# Altium schematic symbol library Power.SchLib: 24 symbols
Pins are listed as number, name and electrical type; pins without a type are passive.

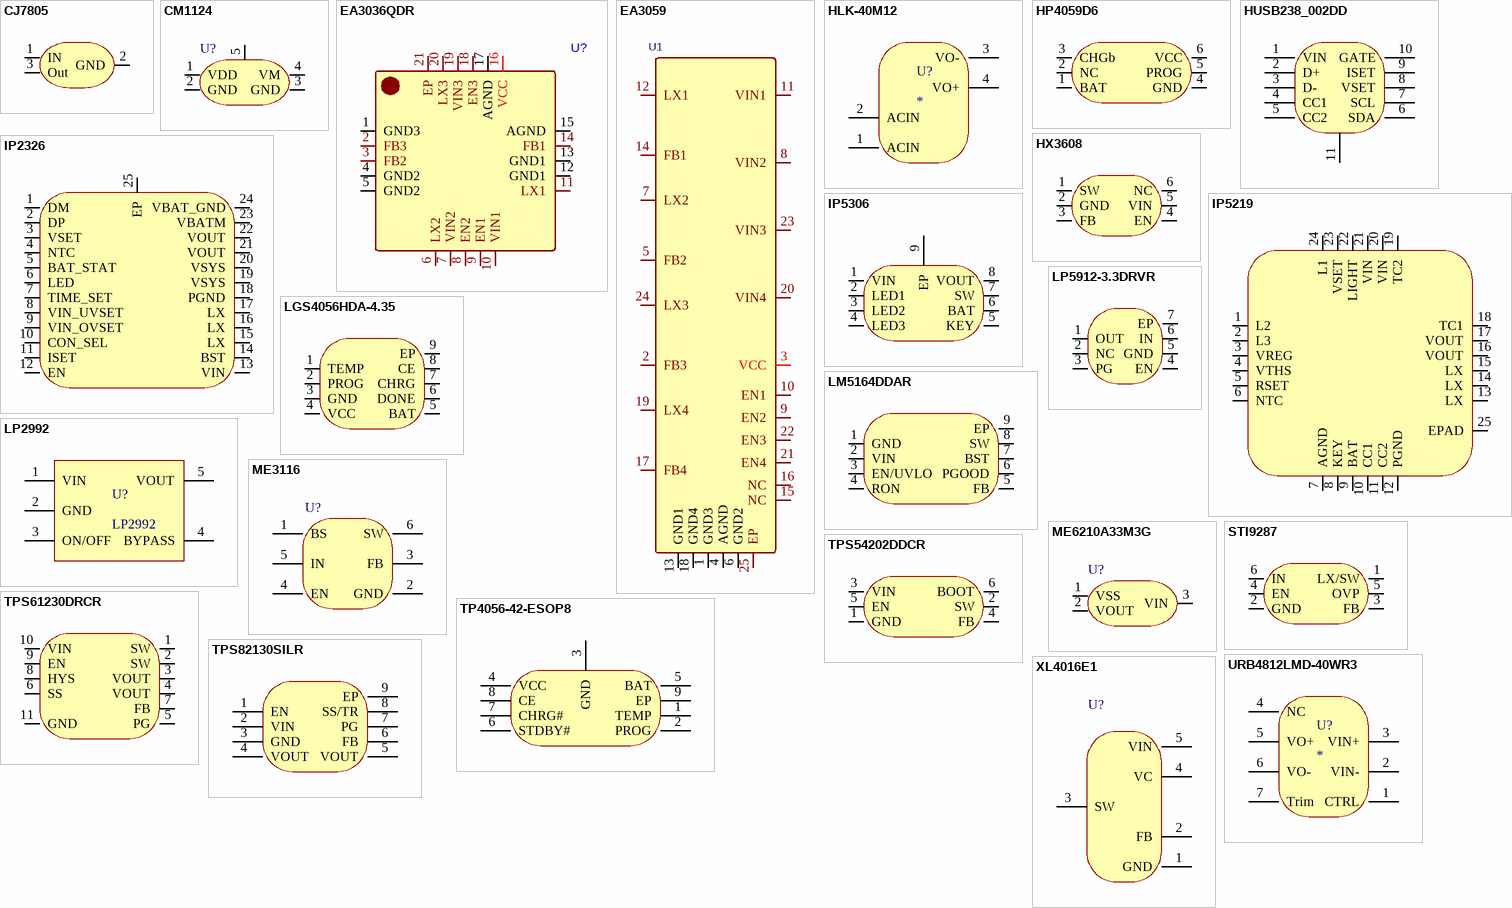
[diagram p0: symbols CJ7805 to XL4016E1]

## CJ7805
designator ?  (value not drawn)
Symbol: CJ7805 3%; Designer: U?; Device: CJ7805 3%
footprint TO-252-2_L6.6-W6.1-P4.58-LS10.1-BR-CW
pins: 1 IN, 2 GND, 3 Out

## CM1124
designator U?  (value not drawn)
Manufacturer: MICRONE(南京微盟); Name: ME6210A33M3G; Add into BOM: yes; Output Type: 固定; Output Polarity: 正; Number of Outputs: 1; Maximum Input Voltage: 18V; Output Voltage: 3.3V; Dropout Voltage: 260mV@(200mA); Output Current: 500mA; Symbol: ME6210A33M3G; Device: ME6210A33M3G; LCSC Part Name: ME6210A33M3G; Supplier Part: C236680; Manufacturer Part: ME6210A33M3G; Supplier Footprint: SOT-23; JLCPCB Part Class: 扩展库; Datasheet: https://atta.szlcsc.com/upload/public/pdf/source/20180709/C236680_4A9EFC836B6D96276770F83E6DC5A093.pdf; Supplier: LCSC; Convert to PCB: yes; Power Supply Rejection Ratio (PSRR): -
footprint DFN-4_L1.0-W1.0-P0.65-BL-EP-A
pins: 1 VDD, 2 GND, 3 GND, 4 VM, 5 EP

## EA3036QDR
designator U?
三路电源管理芯片，应用于直流5V供电或单节锂电池应用
footprint QFN-20_L3.0-W3.0-P0.50-BL-EP1.7
pins: 1 GND3, 2 FB3, 3 FB2, 4 GND2, 5 GND2, 6 LX2, 7 VIN2, 8 EN2, 9 EN1, 10 VIN1, 11 LX1, 12 GND1, 13 GND1, 14 FB1, 15 AGND, 16 VCC, 17 AGND, 18 EN3, 19 VIN3, 20 LX3, 21 EP

## EA3059
designator U1  (value not drawn)
电源电压:2.7V~5.5V;最大充电电流:-;电池类型:-;电池节数:4;; Manufacturer: everanalog(申风); 3DModel: QFN-24_L4.0-W4.0-H0.9-P0.50-; Check: true; AddInBom: yes; ModelId: 45d01521fd6b4217a75fbd67391c0e91; ModelName: VQFN-24_L4.0-W4.0-P0.50-TL-EP2.5; ModelTransform: 158.267,158.267,0,0,0,0,0,0,0; Number of Cells: 4; link: https://item.szlcsc.com/245167.html; JLCPCB Part Class: Extended Part; Symbol: EA3059; Device: EA3059; LCSC Part Name: EA3059; SupplierPart: C111586; ManufacturerPart: EA3059; Supplier Footprint: QFN-24-EP(4x4); Supplier: LCSC; ConvertToPcb: yes; FootprintName: VQFN-24_L4.0-W4.0-P0.50-TL-EP2.5; The Chip Type: -; Supply Voltage: 2.7V~5.5V; Maximum Charge Current: -; Charging Saturation Voltage: -; End-Off Voltage: -; Type of Battery: -; Operating Temperature: -
footprint VQFN-24_L4.0-W4.0-P0.50-TL-EP2.5
pins: 1 GND3, 2 FB3, 3 VCC, 4 AGND, 5 FB2, 6 GND2, 7 LX2, 8 VIN2, 9 EN2, 10 EN1, 11 VIN1, 12 LX1, 13 GND1, 14 FB1, 15 NC, 16 NC, 17 FB4, 18 GND4, 19 LX4, 20 VIN4, 21 EN4, 22 EN3, 23 VIN3, 24 LX3, 25 EP

## HLK-40M12
designator U?
AC220V转DC12V隔离电源模块-AC-DC氮化镓稳压模块40W
footprint HLK-40M12
pins: 1 ACIN, 2 ACIN, 3 VO-, 4 VO+

## HP4059D6
designator U??  (value not drawn)
Manufacturer: TI(德州仪器); Name: TPS54202DDCR; Add into BOM: yes; Symbol: TPS54202DDCR; Device: TPS54202DDCR; LCSC Part Name: TPS54202DDCR; Supplier Part: C191884; Manufacturer Part: TPS54202DDCR; Supplier Footprint: SOT-23-6; JLCPCB Part Class: Extended Part; Datasheet: https://atta.szlcsc.com/upload/public/pdf/source/20181012/C191884_C6DBFD980275651BD8C8F427C2E48058.pdf; Supplier: LCSC; Convert to PCB: yes
footprint X2-DFN1010-6_L1.0-W1.0-P0.35-BL
pins: 1 BAT, 2 NC, 3 CHGb, 4 GND, 5 PROG, 6 VCC

## HUSB238_002DD
designator U??  (value not drawn)
Manufacturer: Hynetek(慧能泰); Add into BOM: yes; Symbol: HUSB238_002DD; Device: HUSB238_002DD; LCSC Part Name: HUSB238_002DD; Supplier Part: C7471904; Manufacturer Part: HUSB238_002DD; Supplier Footprint: DFN-10L(3x3); JLCPCB Part Class: Extended Part; Datasheet: https://atta.szlcsc.com/upload/public/pdf/source/20240407/14E2BCB22C39B22B34E48E1B6FC2FE3E.pdf; Supplier: LCSC; Convert to PCB: yes
footprint DFN-10_L3.0-W3.0-P0.50-BL-EP2.5
pins: 1 VIN, 2 D+, 3 D-, 4 CC1, 5 CC2, 6 SDA, 7 SCL, 8 VSET, 9 ISET, 10 GATE, 11 GND

## HX3608
designator U??  (value not drawn)
Manufacturer: HX(恒佳兴); Add into BOM: yes; Function: 升压型; Synchronous Rectification: 否; Number of Outputs: 1; Topology: 升压式; Input Voltage: 2V~24V; Output Voltage: 2.5V~28V; Output Current (Max): 3.5A; Switching Frequency: 1.2MHz; Name: HX3608; Symbol: HX3608; Device: HX3608; LCSC Part Name: 升压型 Vin=2V~24V Vout=2.5V~28V 3.5A; Supplier Part: C296278; Manufacturer Part: HX3608; Supplier Footprint: SOT-23-6L; JLCPCB Part Class: Extended Part; Datasheet: https://atta.szlcsc.com/upload/public/pdf/source/20181119/C296278_77FFD4221F60AEB235A13FC0B82FB718.pdf; Supplier: LCSC; Convert to PCB: yes
footprint SOT-23-6_L2.9-W1.6-P0.95-LS2.8-BR
pins: 1 SW, 2 GND, 3 FB, 4 EN, 5 VIN, 6 NC

## IP2326
designator U??  (value not drawn)
Manufacturer: INJOINIC(英集芯); Add into BOM: yes; Name: IP2326; Symbol: IP2326; Device: IP2326; LCSC Part Name: IP2326; Supplier Part: C2832094; Manufacturer Part: IP2326; Supplier Footprint: VQFN-24-EP(4x4); JLCPCB Part Class: Extended Part; Datasheet: https://atta.szlcsc.com/upload/public/pdf/source/20210701/C2832094_E17C44C11E64EBC07E8B83E7E48DDEF6.pdf; Supplier: LCSC; Convert to PCB: yes
footprint VQFN-24_L4.0-W4.0-P0.50-BL-EP2.5
pins: 1 DM, 2 DP, 3 VSET, 4 NTC, 5 BAT_STAT, 6 LED, 7 TIME_SET, 8 VIN_UVSET, 9 VIN_OVSET, 10 CON_SEL, 11 ISET, 12 EN, 13 VIN, 14 BST, 15 LX, 16 LX, 17 LX, 18 PGND, 19 VSYS, 20 VSYS, 21 VOUT, 22 VOUT, 23 VBATM, 24 VBAT_GND, 25 EP

## IP5219
designator U??  (value not drawn)
Manufacturer: INJOINIC(英集芯); Add into BOM: yes; Name: IP5219; Symbol: IP5219; Device: IP5219; LCSC Part Name: IP5219; Supplier Part: C181694; Manufacturer Part: IP5219; Supplier Footprint: QFN-24(4x4); JLCPCB Part Class: Extended Part; Datasheet: https://atta.szlcsc.com/upload/public/pdf/source/20221031/B544D9C3F53140D2F37FEB3A67CECE73.pdf; Supplier: LCSC; Convert to PCB: yes
footprint QFN_24
pins: 1 L2, 2 L3, 3 VREG, 4 VTHS, 5 RSET, 6 NTC, 7 AGND, 8 KEY, 9 BAT, 10 CC1, 11 CC2, 12 PGND, 13 LX, 14 LX, 15 LX, 16 VOUT, 17 VOUT, 18 TC1, 19 TC2, 20 VIN, 21 VIN, 22 LIGHT, 23 VSET, 24 L1, 25 EPAD

## IP5306
designator U??  (value not drawn)
Manufacturer: INJOINIC(英集芯); Add into BOM: yes; Name: IP5306; Symbol: IP5306; Device: IP5306; LCSC Part Name: IP5306; Supplier Part: C181692; Manufacturer Part: IP5306; Supplier Footprint: ESOP-8; JLCPCB Part Class: Extended Part; Datasheet: https://atta.szlcsc.com/upload/public/pdf/source/20180920/C181692_842C9BF636DF123BB66E91FC1AD6F13F.pdf; Supplier: LCSC; Convert to PCB: yes
footprint ESOP-8_L4.9-W3.9-P1.27-LS6.0-BL-EP
pins: 1 VIN, 2 LED1, 3 LED2, 4 LED3, 5 KEY, 6 BAT, 7 SW, 8 VOUT, 9 EP

## LGS4056HDA-4.35
designator ?  (value not drawn)
Designer: U?; Symbol: LGS4056HDA-4.35; Device: LGS4056HDA-4.35
footprint DFN-8_L2.0-W2.0-P0.50-BL-EP
pins: 1 TEMP, 2 PROG, 3 GND, 4 VCC, 5 BAT, 6 DONE, 7 CHRG, 8 CE, 9 EP

## LM5164DDAR
designator U??  (value not drawn)
Manufacturer: TI(德州仪器); Add into BOM: yes; Function: 降压型; Synchronous Rectification: 是; Output Type: 可调; Number of Outputs: 1; Topology: 降压式; Input Voltage: 6V~100V; Output Voltage: 1.2V~100V; Output Current (Max): 1A; Switching Frequency: 1MHz; Name: LM5164DDAR; Symbol: LM5164DDAR; Device: LM5164DDAR; LCSC Part Name: 降压型 输入6V~100V 输出1.2V~100V 1A; Supplier Part: C477928; Manufacturer Part: LM5164DDAR; Supplier Footprint: SO-8-EP; JLCPCB Part Class: Extended Part; Datasheet: https://atta.szlcsc.com/upload/public/pdf/source/20200102/C477928_A6130A40DCA2C193067E68A47DE8CF0C.pdf; Supplier: LCSC; Convert to PCB: yes; Operating Temperature: -40℃~+150℃@(TJ)
footprint SO-8_L4.9-W3.9-P1.27-LS6.0-BL-EP
pins: 1 GND, 2 VIN, 3 EN/UVLO, 4 RON, 5 FB, 6 PGOOD, 7 BST, 8 SW, 9 EP

## LP2992
designator U?
LP2992_LDO
footprint SOT23_5
pins: 1 VIN, 2 GND, 3 ON/OFF, 4 BYPASS, 5 VOUT

## LP5912-3.3DRVR
designator U??  (value not drawn)
Manufacturer: TI(德州仪器); Add into BOM: yes; Name: LP5912-3.3DRVR; Symbol: LP5912-3.3DRVR; Device: LP5912-3.3DRVR; LCSC Part Name: LP5912-3.3DRVR; Supplier Part: C524780; Manufacturer Part: LP5912-3.3DRVR; Supplier Footprint: WSON-6; JLCPCB Part Class: Extended Part; Datasheet: https://atta.szlcsc.com/upload/public/pdf/source/20200429/C524780_91FF21983388DBC4383AC748C983A981.pdf; Supplier: LCSC; Convert to PCB: yes; Output Type: -
footprint WSON-6_L2.0-W2.0-P0.65-TL-EP
pins: 1 OUT, 2 NC, 3 PG, 4 EN, 5 GND, 6 IN, 7 EP

## ME3116
designator U?, comment ME3116AM6G_C97643  (value not drawn)
可输出电流:1A;最大输入电压:40V;; Manufacturer: MICRONE(南京微盟); Symbol: ME3116; Add into BOM: yes; Current - Output: 1A; Frequency - Switching: 550kHz; Output Type: Adjustable; Number of Outputs: 1; Voltage - Input (Min): 4.75V; Voltage - Input (Max): 40V; Topology: Buck; Synchronous Rectifier: No; Function: Step-Dow; Output Configuration: Positive; Name: ME3116AM6G; Device: ME3116AM6G_C97643; LCSC Part Name: ME3116AM6G; Supplier Part: C97643; Manufacturer Part: ME3116AM6G; Supplier Footprint: SOT-23-6; JLCPCB Part Class: 扩展库; Datasheet: https://atta.szlcsc.com/upload/public/pdf/source/20170322/1490151692992.pdf; Supplier: LCSC; Convert to PCB: yes; Voltage - Output (Min/Fixed): -; Voltage - Output (Max): -
footprint SOT-23-6_L2.9-W1.6-P0.95-LS2.8-BR
pins: 1 BS, 2 GND, 3 FB, 4 EN, 5 IN, 6 SW

## ME6210A33M3G
designator U?  (value not drawn)
输出类型:固定;输出极性:正;最大输入电压:18V;输出电压:3.3V;输出电流:500mA;电源纹波抑制比(PSRR):-;; Manufacturer: MICRONE(南京微盟); Add into BOM: yes; Output Type: 固定; Output Polarity: 正; Number of Outputs: 1; Maximum Input Voltage: 18V; Output Voltage: 3.3V; Dropout Voltage: 260mV@(200mA); Output Current: 500mA; Name: ME6210A33M3G; Symbol: ME6210A33M3G; Device: ME6210A33M3G; LCSC Part Name: ME6210A33M3G; Supplier Part: C236680; Manufacturer Part: ME6210A33M3G; Supplier Footprint: SOT-23; JLCPCB Part Class: 扩展库; Datasheet: https://atta.szlcsc.com/upload/public/pdf/source/20180709/C236680_4A9EFC836B6D96276770F83E6DC5A093.pdf; Supplier: LCSC; Convert to PCB: yes; Power Supply Rejection Ratio (PSRR): -
footprint SOT23_3 (SOT23, 3-Leads, Body 3.1x3.0mm (max), Pitch 0.95mm, IPC Medium Density)
pins: 1 VSS, 2 VOUT, 3 VIN

## STI9287
designator U??  (value not drawn)
Manufacturer: TMI(拓尔微); Add into BOM: yes; Name: STI9287; Symbol: STI9287; Device: STI9287; LCSC Part Name: STI9287; Supplier Part: C842664; Manufacturer Part: STI9287; Supplier Footprint: SOT-23-6; JLCPCB Part Class: Extended Part; Datasheet: https://atta.szlcsc.com/upload/public/pdf/source/20240703/B128564ECC0624FCB41061FE80512E84.pdf; Supplier: LCSC; Convert to PCB: yes
footprint SOT-23-6_L2.9-W1.6-P0.95-LS2.8-BR
pins: 1 LX/SW, 2 GND, 3 FB, 4 EN, 5 OVP, 6 IN

## TP4056-42-ESOP8
designator U??  (value not drawn)
Manufacturer: TOPPOWER(南京拓微); Symbol: TP4056; Add into BOM: yes; Name: TP4056-42-ESOP8; Device: TP4056-42-ESOP8; LCSC Part Name: TP4056-42-ESOP8; Supplier Part: C16581; Manufacturer Part: TP4056-42-ESOP8; Supplier Footprint: ESOP-8; JLCPCB Part Class: Extended Part; Datasheet: https://atta.szlcsc.com/upload/public/pdf/source/20190626/C16581_611BCF5D7CF554EAE465137A8F68DB3E.pdf; Supplier: LCSC; Convert to PCB: yes
footprint ESOP-8_L4.9-W3.9-P1.27-LS6.0-BL-EP
pins: 1 TEMP, 2 PROG, 3 GND, 4 VCC, 5 BAT, 6 STDBY#, 7 CHRG#, 8 CE, 9 EP

## TPS54202DDCR
designator U??  (value not drawn)
Manufacturer: TI(德州仪器); Add into BOM: yes; Name: TPS54202DDCR; Symbol: TPS54202DDCR; Device: TPS54202DDCR; LCSC Part Name: TPS54202DDCR; Supplier Part: C191884; Manufacturer Part: TPS54202DDCR; Supplier Footprint: SOT-23-6; JLCPCB Part Class: Extended Part; Datasheet: https://atta.szlcsc.com/upload/public/pdf/source/20181012/C191884_C6DBFD980275651BD8C8F427C2E48058.pdf; Supplier: LCSC; Convert to PCB: yes
footprint SOT-23-6_L2.9-W1.6-P0.95-LS2.8-BR
pins: 1 GND, 2 SW, 3 VIN, 4 FB, 5 EN, 6 BOOT

## TPS61230DRCR
designator ?  (value not drawn)
Designer: U?; Symbol: TPS61230DRCR; Device: TPS61230DRCR
footprint VSON-10_L3.0-W3.0-P0.50-TL-EP_TPS61230DRCR
pins: 1 SW, 2 SW, 3 VOUT, 4 VOUT, 5 PG, 6 SS, 7 FB, 8 HYS, 9 EN, 10 VIN, 11 GND

## TPS82130SILR
designator U??  (value not drawn)
Manufacturer: TI(德州仪器); Add into BOM: yes; Name: TPS82130SILR; Symbol: TPS82130SILR; Device: TPS82130SILR; LCSC Part Name: TPS82130SILR; Supplier Part: C473914; Manufacturer Part: TPS82130SILR; Supplier Footprint: USIP-8; JLCPCB Part Class: Extended Part; Datasheet: https://www.ti.com/cn/lit/gpn/tps82130; Supplier: LCSC; Convert to PCB: yes
footprint USIP-8_L3.0-W2.8-P0.65-TL-EP
pins: 1 EN, 2 VIN, 3 GND, 4 VOUT, 5 VOUT, 6 FB, 7 PG, 8 SS/TR, 9 EP

## URB4812LMD-40WR3
designator U?
48V转12V隔离电源模块-DC-DC稳压模块40W
footprint URB4812LMD-40WR3
pins: 1 CTRL, 2 VIN-, 3 VIN+, 4 NC, 5 VO+, 6 VO-, 7 Trim

## XL4016E1
designator U?  (value not drawn)
功能类型:降压型;同步整流:否;输出通道数:1;拓扑结构:降压式;输入电压:8V~40V;输出电压:1.25V~36V;输出电流(最大值):8A;开关频率:180kHz;; Manufacturer: XLSEMI(芯龙); Add into BOM: yes; Function: 降压型; Synchronous Rectification: 否; Number of Outputs: 1; Topology: 降压式; Input Voltage: 8V~40V; Output Current (Max): 8A; Switching Frequency: 180kHz; Name: XL4016E1; Symbol: XL4016E1; Device: XL4016E1; LCSC Part Name: 降压型 Vin=8V~40V Vout=1.25V~36V 8A; Supplier Part: C55881; Manufacturer Part: XL4016E1; Supplier Footprint: TO-220-5; JLCPCB Part Class: 扩展库; Datasheet: https://atta.szlcsc.com/upload/public/pdf/source/20221017/BA256A5392B705775B4C335FAFB3EDCF.pdf; Supplier: LCSC; Convert to PCB: yes; Output Voltage: 1.25V~36V
footprint TO-220-5L_L10.2-W4.5-P1.71-L
pins: 1 GND, 2 FB, 3 SW, 4 VC, 5 VIN